# Altium schematic symbol library 826926-2.SchLib: 1 symbol
Pins are listed as number, name and electrical type; pins without a type are passive.

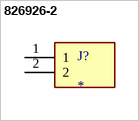
[diagram p0: symbol 826926-2]

## 826926-2
designator J?
12P MOD2 STIFT LEI; MF: {'manufacturer': u'TE Connectivity'}; MP: 826926-2; Value: *; Package: None; Availability: Unavailable; Price: None
footprint TE_826926-2
pins: 1, 2